# EAGLE library part ATMEGA328P (library Railstars)
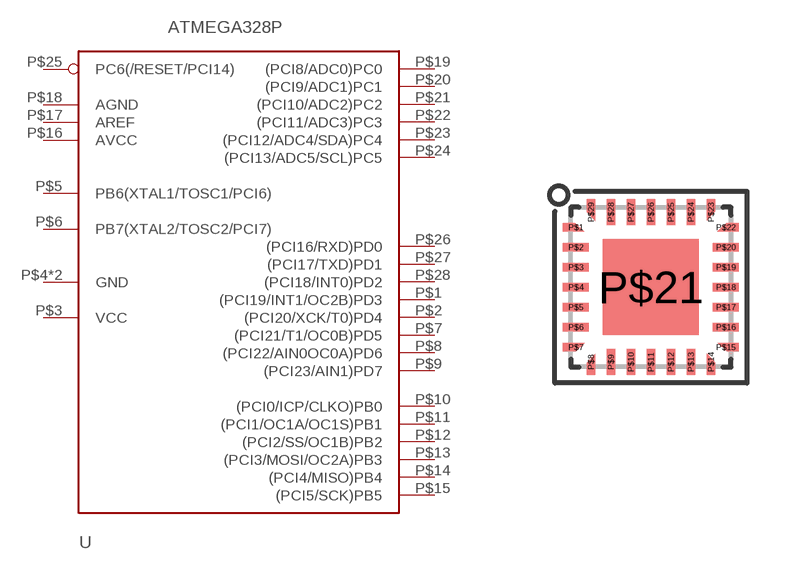
[diagram p42: symbol with the pads of VQFN-28; footprint VQFN-28]

Designator prefix -

## ATMEGA328P  [VQFN-28]
P$1  (PCI19/INT1/OC2B)PD3
P$2  (PCI20/XCK/T0)PD4
P$3  VCC
P$4  GND
P$5  PB6(XTAL1/TOSC1/PCI6)
P$6  PB7(XTAL2/TOSC2/PCI7)
P$7  (PCI21/T1/OC0B)PD5
P$8  (PCI22/AIN0OC0A)PD6
P$9  (PCI23/AIN1)PD7
P$10  (PCI0/ICP/CLKO)PB0
P$11  (PCI1/OC1A/OC1S)PB1
P$12  (PCI2/SS/OC1B)PB2
P$13  (PCI3/MOSI/OC2A)PB3
P$14  (PCI4/MISO)PB4
P$15  (PCI5/SCK)PB5
P$16  AVCC
P$17  AREF
P$18  AGND
P$19  (PCI8/ADC0)PC0
P$20  (PCI9/ADC1)PC1
P$21  (PCI10/ADC2)PC2
P$22  (PCI11/ADC3)PC3
P$23  (PCI12/ADC4/SDA)PC4
P$24  (PCI13/ADC5/SCL)PC5
P$25  PC6(/RESET/PCI14)
P$26  (PCI16/RXD)PD0
P$27  (PCI17/TXD)PD1
P$28  (PCI18/INT0)PD2
P$29  GND

## Footprint VQFN-28 (pad centres in mm)
smd 0.1 x 0.1: P$1 -1.875,1.5; P$7 -1.875,-1.5; P$8 -1.5,-1.875; P$14 1.5,-1.875; P$15 1.875,-1.5; P$22 1.875,1.5; P$23 1.5,1.875; P$29 -1.5,1.875
smd 0.65 x 0.22: P$2 -1.875,1; P$3 -1.875,0.5; P$4 -1.875,0; P$5 -1.875,-0.5; P$6 -1.875,-1; P$16 1.875,-1; P$17 1.875,-0.5; P$18 1.875,0; P$19 1.875,0.5; P$20 1.875,1
smd 0.22 x 0.65: P$9 -1,-1.875; P$10 -0.5,-1.875; P$11 0,-1.875; P$12 0.5,-1.875; P$13 1,-1.875; P$24 1,1.875; P$25 0.5,1.875; P$26 0,1.875; P$27 -0.5,1.875; P$28 -1,1.875
smd 2.4 x 2.4: P$21 0,0